# Altium schematic symbol library bjt_pnp.SchLib: 1 symbol
Pins are listed as number, name and electrical type; pins without a type are passive.

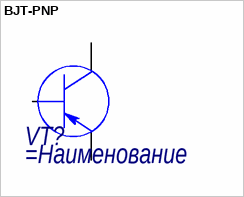
[diagram p0: symbol BJT-PNP]

## BJT-PNP
designator VT?
=Описание
pins: B, C, E